# Altium schematic symbol library SPT3G_LCBoard.SchLib: 6 symbols
Pins are listed as number, name and electrical type; pins without a type are passive.

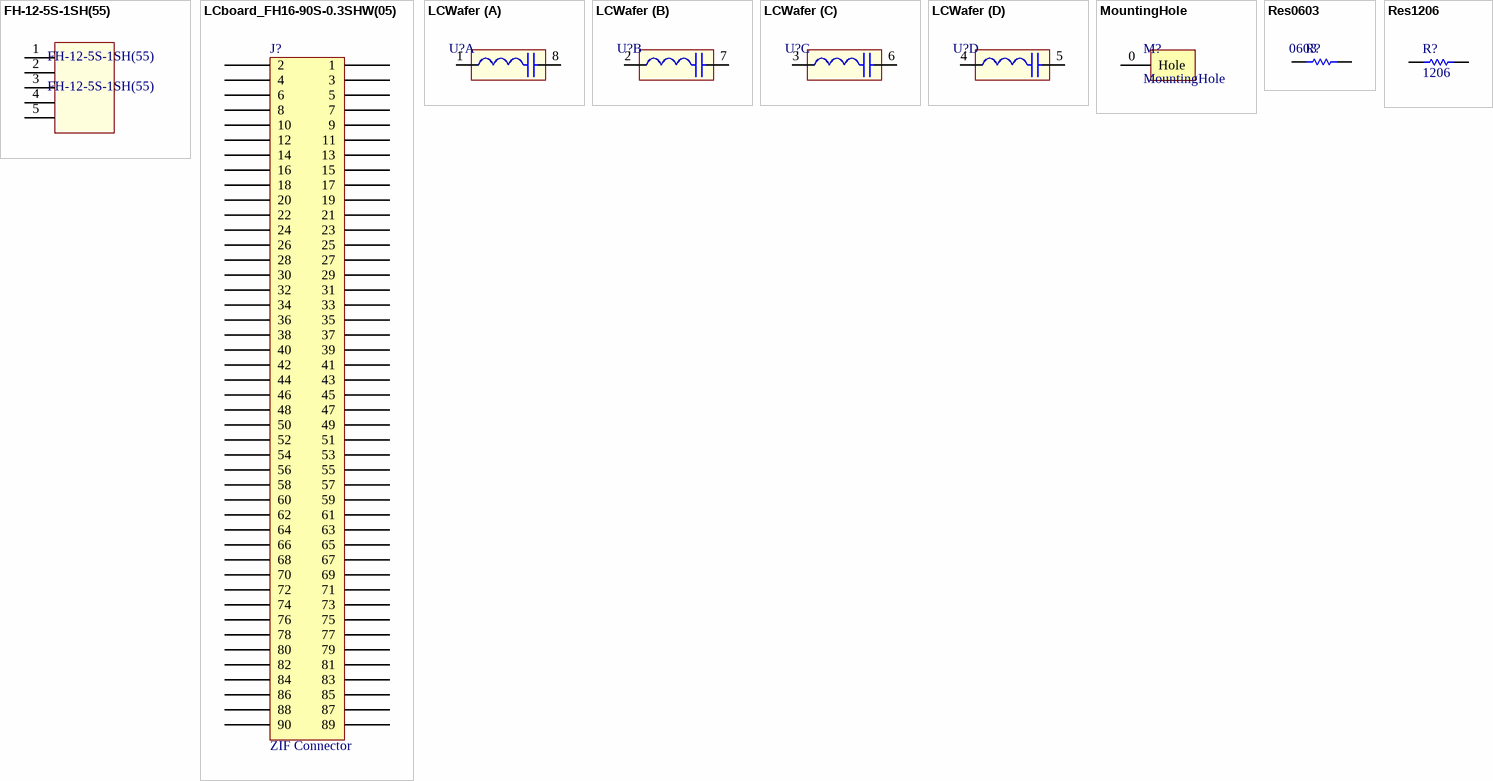
[diagram p0: symbols FH-12-5S-1SH(55) to Res1206]

## FH-12-5S-1SH(55)
designator FH-12-5S-1SH(55)
footprint FH-12-5S-1SH(55)
pins: 1, 2, 3, 4, 5

## LCboard_FH16-90S-0.3SHW(05)
designator J?, comment ZIF Connector
footprint LCBoard_ZIFCon (HFP190CT-ND)
pins: 1, 2, 3, 4, 5, 6, 7, 8, 9, 10, 11, 12, 13, 14, 15, 16, 17, 18, 19, 20, 21, 22, 23, 24, 25, 26, 27, 28, 29, 30, 31, 32, 33, 34, 35, 36, 37, 38, 39, 40, 41, 42, 43, 44, 45, 46, 47, 48, 49, 50, 51, 52, 53, 54, 55, 56, 57, 58, 59, 60, 61, 62, 63, 64, 65, 66, 67, 68, 69, 70, 71, 72, 73, 74, 75, 76, 77, 78, 79, 80, 81, 82, 83, 84, 85, 86, 87, 88, 89, 90

## LCWafer
designator U?, comment LC_wafer  (value not drawn)
Gold bonded integrated LC
footprint LCCHIP4X2 - BondPads1 (LCCHIP4X2)
part A pins: 1, 8
part B pins: 2, 7
part C pins: 3, 6
part D pins: 4, 5

## MountingHole
designator M?
footprint MountingHole
pins: 0 Hole

## Res0603
designator R?, comment 0603
RES 1 OHM 1/10W 1% 0603 SMD; Value: 1; TechInfo: *
simulation model RESISTOR (Resistor)
signal-integrity model Res
footprint 0603
pins: 1, 2

## Res1206
designator R?  Footprint: 1206
Resistor; Param1: 100ppm/C; Value: DNL; Param: 1%; TechInfo: *
simulation model RESISTOR (Resistor)
signal-integrity model Res
footprint CR1608-0603M (Chip Resistor; Body 1.6 x 0.8 mm (LxW typ))
footprint 1206
pins: 1, 2